# Altium footprint library LOGI-BONE.PcbLib: 27 footprints (part 1 of 2)
Each footprint in its own frame and in the unit in brackets; x right, y up, seen from the top. Pads: shape width x height; smd on the part's side, far side on the other; paste and mask are expansions set on the pad; w line width, h text height; cw(c..) or ccw(c..) is an arc to the next point about the centre after c.
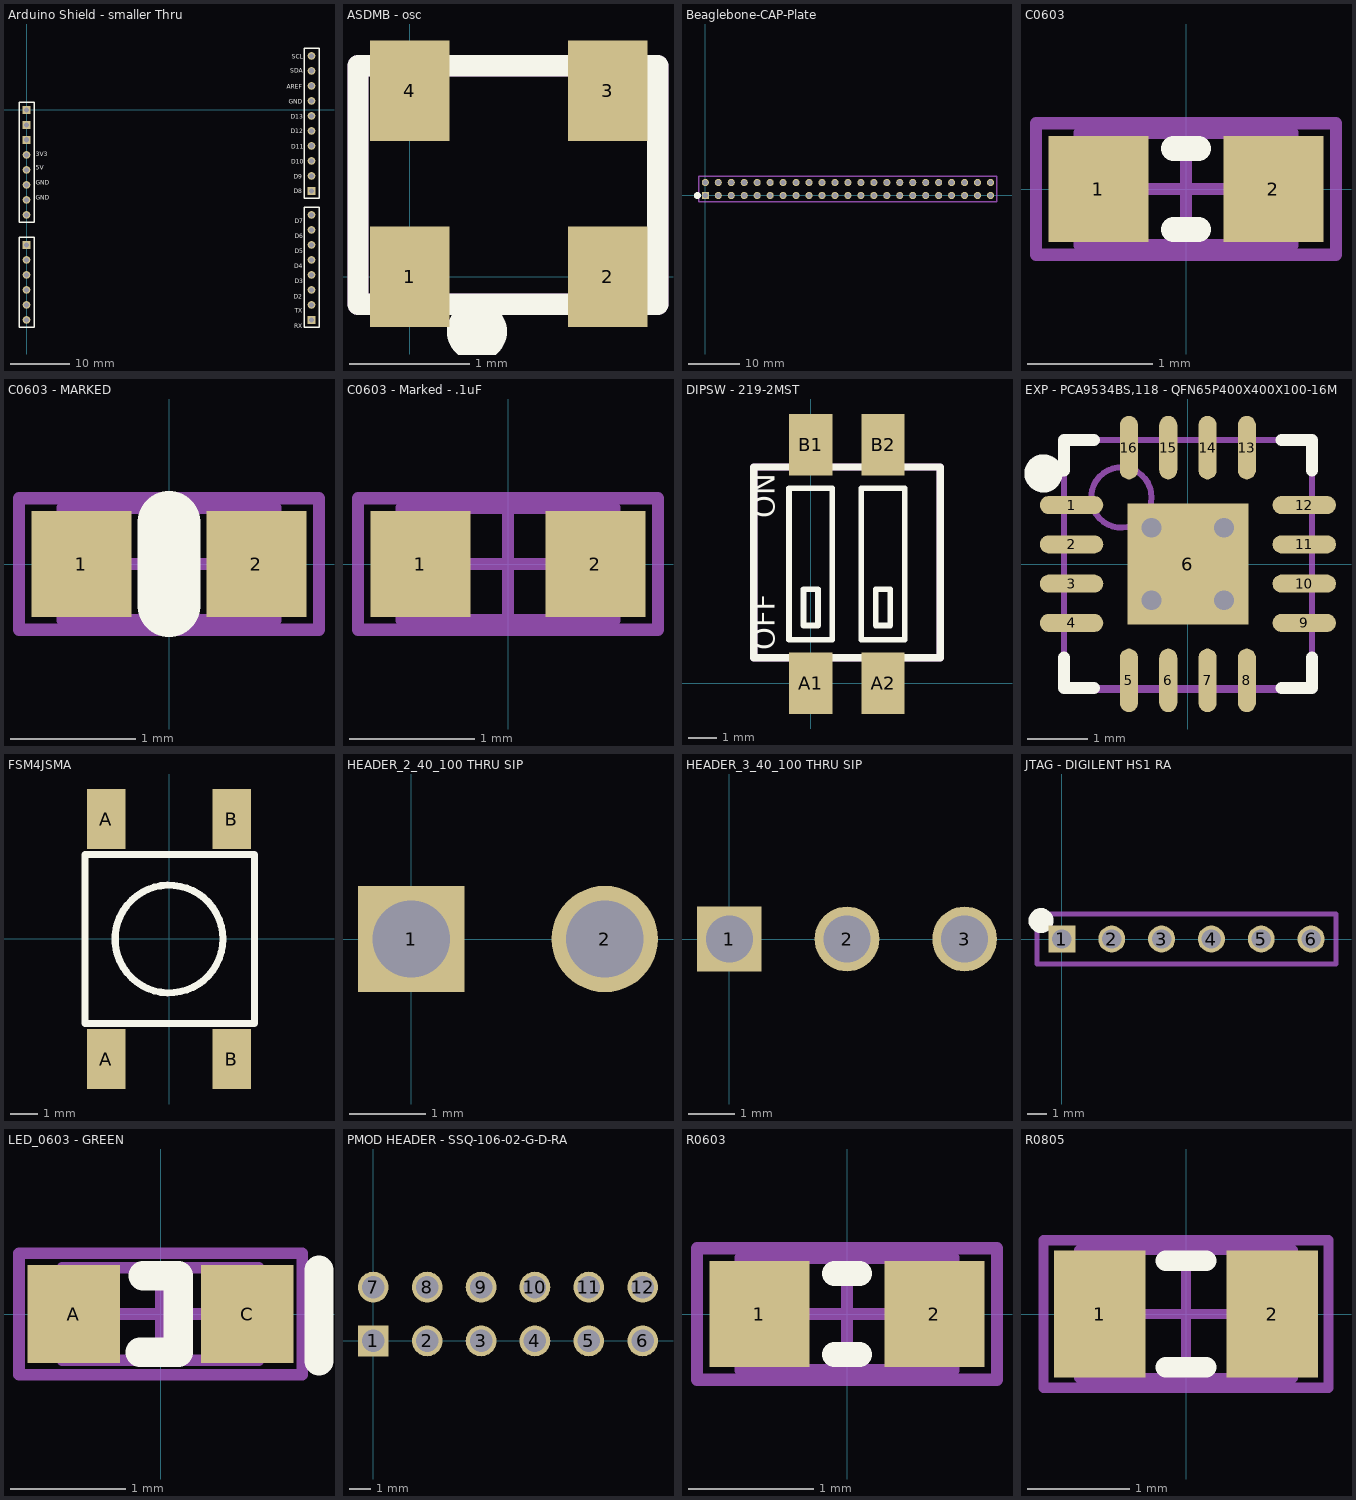
[diagram p0: the footprints below, top view; thin cyan lines are the x and y axes]

## Arduino Shield - smaller Thru [mil] "Allows more traces inbetween pads"
pads (32):
  rect 51x51 hole 36: A0(0,-100) A1(0,-200) A-1(0,0) B1(0,-900) C1(1900,-1400) D1(1900,-540)
  round 51 hole 36: A2(0,-300) A3(0,-400) A4(0,-500) A5(0,-600) A6(0,-700) B2(0,-1000) B3(0,-1100) B4(0,-1200) B5(0,-1300) B6(0,-1400) C2(1900,-1300) C3(1900,-1200) C4(1900,-1100) C5(1900,-1000) C6(1900,-900) C7(1900,-800) C8(1900,-700) D2(1900,-440) D3(1900,-340) D4(1900,-240) D5(1900,-140) D6(1900,-40) D7(1900,60) D8(1900,160) D9(1900,260) D10(1900,360)
Top Overlay:
  lines w10: -50,-1450 -50,-850 50,-850 50,-1450 -50,-1450 ; -50,-750 50,-750 50,50 -50,50 -50,-750 ; 1850,-1450 1950,-1450 1950,-650 1850,-650 1850,-1450 ; 1850,-590 1850,410 1950,410 1950,-590 1850,-590
  text "GND" at 60,-610 h50
  text "3V3" at 60,-320 h50
  text "5V" at 60,-410 h50
  text "GND" at 60,-510 h50
  text "RX" at 1786,-1464 h50
  text "TX" at 1787,-1363 h50
  text "D2" at 1780,-1267 h50
  text "D3" at 1787,-1166 h50
  text "D4" at 1786,-1065 h50
  text "D5" at 1789,-964 h50
  text "D6" at 1788,-864 h50
  text "D7" at 1789,-764 h50
  text "D8" at 1783,-564 h50
  text "D9" at 1783,-469 h50
  text "D10" at 1765,-370 h50
  text "D11" at 1766,-269 h50
  text "D12" at 1761,-165 h50
  text "D13" at 1761,-67 h50
  text "GND" at 1749,32 h50
  text "AREF" at 1734,131 h50
  text "SCL" at 1767,332 h50
  text "SDA" at 1758,239 h50
3D body: height 326.77, standoff -100, extent 1850,-1450 1950,-650
3D body: height 326.77, standoff -100, extent -50,-1450.99 50,-850.99
3D body: height 326.77, standoff -100, extent -49,-752 51,48
3D body: height 326.77, standoff -100, extent 1849,-591 1949,409

## ASDMB - osc [mil] "oscillator ASDMB - osc footprint"
pads (4):
  rect 26x33 smd: 1(0,0) 2(64.96,0) 3(64.96,61.02) 4(0,61.02)
Top Overlay:
  circle w15.75: c22.03,-18 r1.97
  lines w7: -17,-9 -17,69.23 81.43,69.23 81.43,-9 -17,-9
Mechanical 15:
  lines w7: -17,-9 81.43,-9 81.43,69.23 -17,69.23 -17,-9
3D body: height 30, standoff 0, extent -16.98,-8.98 81.41,69.21

## Beaglebone-CAP-Plate [mil] "Beaglebone-CAP-Plate"
pads (46):
  rect 55x55 hole 40: 1(0,0)
  round 55 hole 40: 2(0,100) 3(100,0) 4(100,100) 5(200,0) 6(200,100) 7(300,0) 8(300,100) 9(400,0) 10(400,100) 11(500,0) 12(500,100) 13(600,0) 14(600,100) 15(700,0) 16(700,100) 17(800,0) 18(800,100) 19(900,0) 20(900,100) 21(1000,0) 22(1000,100) 23(1100,0) 24(1100,100) 25(1200,0) 26(1200,100) 27(1300,0) 28(1300,100) 29(1400,0) 30(1400,100) 31(1500,0) 32(1500,100) 33(1600,0) 34(1600,100) 35(1700,0) 36(1700,100) 37(1800,0) 38(1800,100) 39(1900,0) 40(1900,100) 41(2000,0) 42(2000,100) 43(2100,0) 44(2100,100) 45(2200,0) 46(2200,100)
Top Overlay:
  circle w50: c-62,-1 r2.24
Mechanical 15:
  lines w10: -50,-50 -50,150 2250,150 2250,-50 -50,-50
3D body: height 55.61, standoff -397.15, extent -50,-50 2250,150

## C0603 [mm] "0603 Generic"
height 0.45
pads (2):
  rect 0.8x0.85 smd: 1(-0.7,0) 2(0.7,0)
Top Overlay:
  lines w0.2: -0.1,-0.325 0.1,-0.325 ; -0.1,0.325 0.1,0.325
Mechanical 13:
  lines w0.1: -0.85,-0.45 -0.85,0.45 0.85,0.45 0.85,-0.45 -0.85,-0.45
Mechanical 15:
  lines w0.1: -0.45,0 0.45,0 ; 0,-0.45 0,0.45 ; -1.2,-0.525 -1.2,0.525 1.2,0.525 1.2,-0.525 -1.2,-0.525
3D body: height 0.46, standoff -0.01, extent -0.8,-0.42 0.82,0.4

## C0603 - MARKED [mm] "0603 Generic"
height 0.45
pads (2):
  rect 0.8x0.85 smd: 1(-0.7,0) 2(0.7,0)
Top Overlay:
  lines w0.508: 0,-0.33 0,0.33
Mechanical 13:
  lines w0.1: -0.85,-0.45 0.85,-0.45 0.85,0.45 -0.85,0.45 -0.85,-0.45
Mechanical 15:
  lines w0.1: -0.45,0 0.45,0 ; 0,-0.45 0,0.45 ; -1.2,-0.525 1.2,-0.525 1.2,0.525 -1.2,0.525 -1.2,-0.525
3D body: height 0.46, standoff -0.01, extent -0.8,-0.42 0.82,0.4

## C0603 - Marked - .1uF [mm] "0603 Generic"
height 0.45
pads (2):
  rect 0.8x0.85 smd: 1(-0.7,0) 2(0.7,0)
Top Overlay:
  text ".1u" at 0.229,-0.635 h1.02
Mechanical 13:
  lines w0.1: -0.85,-0.45 -0.85,0.45 0.85,0.45 0.85,-0.45 -0.85,-0.45
Mechanical 15:
  lines w0.1: -0.45,0 0.45,0 ; 0,-0.45 0,0.45 ; -1.2,-0.525 -1.2,0.525 1.2,0.525 1.2,-0.525 -1.2,-0.525
3D body: height 0.46, standoff -0.01, extent -0.8,-0.42 0.82,0.4

## DIPSW - 219-2MST [mil]
pads (4):
  rect 60x85 smd: A1(0,0) A2(100,0) B1(0,330) B2(100,330)
Top Overlay:
  lines w7.87: -30,60 -30,260 -30,270 30,270 30,260 30,60 -30,60 ; -10,80 -10,130 10,130 10,80 -10,80 ; 70,60 130,60 130,260 130,270 70,270 70,260 70,60 ; 90,80 110,80 110,130 90,130 90,80
  lines w10: -78.74,35.43 179.13,35.43 179.13,299.21 -78.74,299.21 -78.74,35.43
  text "OFF" at -40,46 h50
  text "ON" at -40,228 h50
Mechanical 15:
  lines w10: -78.74,35.43 -78.74,299.21 179.13,299.21 179.13,35.43 -78.74,35.43
3D body: height 145.67, standoff 0, extent -67.51,-28.92 169.5,356.91

## EXP - PCA9534BS,118 - QFN65P400X400X100-16M [mm] "QFN, 16-Leads, Body 4.1x4.1mm (max), Pitch 0.65mm, IPC Low Density"
height 1
pads (17):
  oval 1.05x0.3 smd: 1(-1.925,0.975) 2(-1.925,0.325) 3(-1.925,-0.325) 4(-1.925,-0.975) 9(1.925,-0.975) 10(1.925,-0.325) 11(1.925,0.325) 12(1.925,0.975)
  oval 0.3x1.05 smd: 5(-0.975,-1.925) 6(-0.325,-1.925) 7(0.325,-1.925) 8(0.975,-1.925) 13(0.975,1.925) 14(0.325,1.925) 15(-0.325,1.925) 16(-0.975,1.925)
  rect 2x2 smd: 6(0,0)
via 0.6,-0.6 diameter 0.66 hole 0.33
via 0.6,0.6 diameter 0.66 hole 0.33
via -0.6,-0.6 diameter 0.66 hole 0.33
via -0.6,0.6 diameter 0.66 hole 0.33
Top Overlay:
  circle w0.381: c-2.388,1.499 r0.125
  lines w0.2: -2.05,-1.55 -2.05,-2.05 -1.55,-2.05 ; -2.05,1.55 -2.05,2.05 -1.55,2.05 ; 1.55,-2.05 2.05,-2.05 2.05,-1.55 ; 1.55,2.05 2.05,2.05 2.05,1.55
Mechanical 13:
  circle w0.1: c-1.1,1.1 r0.5
  lines w0.1: -2.05,-2.05 2.05,-2.05 2.05,2.05 -2.05,2.05 -2.05,-2.05
Mechanical 15:
  lines w0.1: -0.5,0 0.5,0 ; 0,-0.5 0,0.5 ; -2.05,-2.083 2.05,-2.083 2.05,2.05 -2.05,2.05 -2.05,-2.083
3D body: height 1, standoff 0.05, extent -2.05,-2.05 2.05,2.05

## FSM4JSMA [mil] "SWITCH TACTILE SPST-NO 0.05A 12V"
pads (4):
  rect 55x85 smd: A(-89,-170) A(-89,170) B(89,-170) B(89,170)
Top Overlay:
  circle w10: c0,0 r76.32
  lines w10: -119,-120 121,-120 121,120 -119,120 -119,-120
3D body: height 200.22, standoff 0.22, extent -118.11,-197.85 118.11,195.85

## HEADER_2_40_100 THRU SIP [mil]
pads (2):
  rect 55x55 hole 40: 1(0,0)
  round 55 hole 40: 2(100,0)

## HEADER_3_40_100 THRU SIP [mil] "Sata Data header 67490-3220 - verified pin nums on datasheet 1=gnd 2=tx+"
pads (3):
  rect 55x55 hole 40: 1(0,0)
  round 55 hole 40: 2(100,0) 3(200,0)

## JTAG - DIGILENT HS1 RA [mil]
pads (6):
  rect 54x54 hole 39: 1(0,0)
  round 54 hole 39: 2(100,0) 3(200,0) 4(300,0) 5(400,0) 6(500,0)
Top Overlay:
  circle w30: c-42,37 r10
Mechanical 15:
  lines w10: -50,-50 550,-50 550,50 -50,50 -50,-50
3D body: height 132.58, standoff -79.23, extent -50,-10 550,402.58

## LED_0603 - GREEN [mm] "LED_0603 - GREEN"
height 0.8
pads (2):
  rect 0.8x0.85 smd: A(-0.75,0) C(0.75,0)
Top Overlay:
  lines w0.254: -0.178,-0.33 0.152,-0.33 0.152,0.33 -0.152,0.33 ; 1.372,-0.406 1.372,0.381
Mechanical 13:
  lines w0.1: -0.85,-0.4 -0.85,0.4 0.85,0.4 0.85,-0.4 -0.85,-0.4
Mechanical 15:
  lines w0.1: -0.4,0 0.4,0 ; 0,-0.4 0,0.4 ; -1.225,-0.525 -1.225,0.525 1.225,0.525 1.225,-0.525 -1.225,-0.525
3D body: height 0.26, standoff 0.25, extent 0.476,0.226 0.499,0.374
3D body: height 0.26, standoff 0.25, extent 0.476,-0.374 0.499,-0.226
3D body: height 0.75, standoff 0.25, extent -0.475,-0.399 0.474,0.399
3D body: height 0.25, standoff 0, extent -0.499,-0.399 0.499,0.399
3D body: height 0.25, standoff 0, extent 0.5,-0.399 0.8,0.4
3D body: height 0.25, standoff 0, extent -0.8,-0.399 -0.5,0.4

## PMOD HEADER - SSQ-106-02-G-D-RA [mil]
pads (12):
  rect 57x57 hole 42: 1(0,0)
  round 57 hole 42: 2(100,0) 3(200,0) 4(300,0) 5(400,0) 6(500,0) 7(0,100) 8(100,100) 9(200,100) 10(300,100) 11(400,100) 12(500,100)
3D body: height 199.99, standoff -95.01, extent -59.08,-13.75 561,493.75

## R0603 [mm] "0603 Generic"
height 0.45
pads (2):
  rect 0.8x0.85 smd: 1(-0.7,0) 2(0.7,0)
Top Overlay:
  lines w0.2: -0.1,-0.325 0.1,-0.325 ; -0.1,0.325 0.1,0.325
Mechanical 13:
  lines w0.1: -0.85,-0.45 -0.85,0.45 0.85,0.45 0.85,-0.45 -0.85,-0.45
Mechanical 15:
  lines w0.1: -0.45,0 0.45,0 ; 0,-0.45 0,0.45 ; -1.2,-0.525 -1.2,0.525 1.2,0.525 1.2,-0.525 -1.2,-0.525
3D body: height 0.46, standoff -0.01, extent -0.81,-0.406 0.81,0.414

## R0805 [mm] "0805 Generic"
height 0.6
pads (2):
  rect 0.9x1.25 smd: 1(-0.85,0) 2(0.85,0)
Top Overlay:
  lines w0.2: -0.2,-0.525 0.2,-0.525 ; -0.2,0.525 0.2,0.525
Mechanical 13:
  lines w0.1: -1.05,-0.63 1.05,-0.63 1.05,0.63 -1.05,0.63 -1.05,-0.63
Mechanical 15:
  lines w0.1: -0.5,0 0.5,0 ; 0,-0.5 0,0.5 ; -1.4,-0.725 1.4,-0.725 1.4,0.725 -1.4,0.725 -1.4,-0.725
3D body: height 0.61, standoff -0.01, extent -1.035,-0.635 0.985,0.635